# Altium integrated library C1206X105J4RECAUTO.IntLib: 1 symbol
Pins are listed as number, name and electrical type; pins without a type are passive.

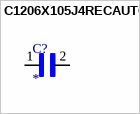
[diagram p0: symbol C1206X105J4RECAUTO]

## C1206X105J4RECAUTO
designator C?
MP: C1206X105J4RECAUTO; Package: None; Price: None; Value: *; Availability: Unavailable
footprint CAPC3316X120N
footprint CAPC3316X120N
pins: 1, 2